# EAGLE library part PROTOCOLUMN-IO (library xess)
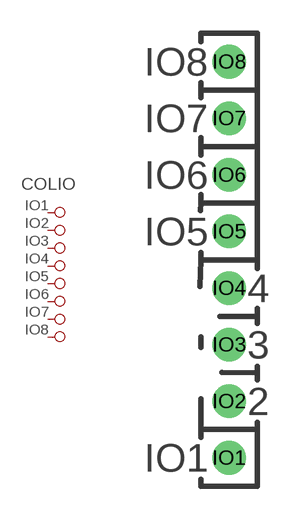
[diagram p158: symbol with the pads of PROTOCOLUMN-IO; footprint PROTOCOLUMN-IO]

Designator prefix COLIO

## PROTOCOLUMN-IO  [PROTOCOLUMN-IO]
IO1  1  pas
IO2  2  pas
IO3  3  pas
IO4  4  pas
IO5  5  pas
IO6  6  pas
IO7  7  pas
IO8  8  pas

## Footprint PROTOCOLUMN-IO (pad centres in mm)
drill 1 round: IO1 0,-7.62; IO2 0,-5.08; IO3 0,-2.54; IO4 0,0; IO5 0,2.54; IO6 0,5.08; IO7 0,7.62; IO8 0,10.16